# EAGLE library part TSW-103-15-T-D-LL (library CONNECTORs)
Board-To-Board Connector, Vertical, 2.54 mm, 6 Contacts, Header, TSW Series, Through Hole, 2 Rows
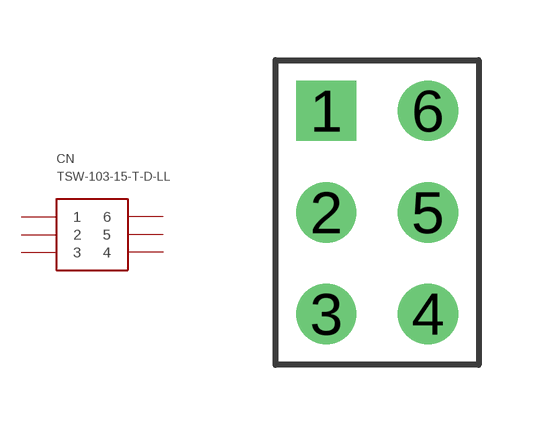
[diagram p41: symbol with the pads of 2X3HEADER; footprint 2X3HEADER]

Designator prefix CN

## TSW-103-15-T-D-LL (FARNELL: 2031306; HEIGHT: 16; PRICE_PER: 0.39; VALUE: 2X6)  [2X3HEADER]
1  1
2  2
3  3
4  4
5  5
6  6

## Footprint 2X3HEADER (pad centres in mm)
drill 1 pad 1.5 square: 1 -1.27,2.54
drill 1 pad 1.5: 2 -1.27,0; 3 -1.27,-2.54; 4 1.27,-2.54; 5 1.27,0; 6 1.27,2.54